# EAGLE library part SN74*1G175 (library lio)
Single Positive-Edge-Triggered D-Type Flip-Flop with asynchronous CLR Source: Data sheet <http://www.ti.com/lit/ds/symlink/sn74lvc1g175.pdf>
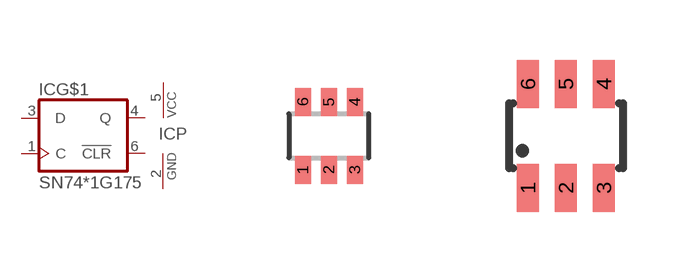
[diagram p15: symbol with the pads of SC70-6; footprints SC70-6, SOT23-6]

Designator prefix IC; gates P=PWRN G$1=7479

## SN74LVC1G175DCK  [SC70-6]
1  G$1:C  in
2  P:GND  pwr
3  G$1:D  in
4  G$1:Q  out
5  P:VCC  pwr
6  G$1:!CLR

## SN74LVC1G175DBV  [SOT23-6]
Pads as for SC70-6

## Footprint SC70-6 (pad centres in mm)
SMT SC70-5 SOT353 - Philips Semiconductors Source: http://www.semiconductors.philips.com/acrobat_download/datasheets/74HC_HCT1G66_3.pdf
smd 0.4 x 0.7: 1 -0.65,-0.85; 2 0,-0.85; 3 0.65,-0.85; 4 0.65,0.85; 5 0,0.85; 6 -0.65,0.85

## Footprint SOT23-6 (pad centres in mm)
smd 0.55 x 1.2: 1 -0.95,-1.3; 2 0,-1.3; 3 0.95,-1.3; 4 0.95,1.3; 5 0,1.3; 6 -0.95,1.3